# Altium schematic symbol library 27pf_capacitor_0805_Components - 15.03.22 - 13.57.SchLib: 1 symbol
Pins are listed as number, name and electrical type; pins without a type are passive.

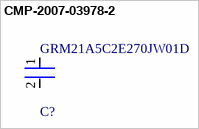
[diagram p0: symbol CMP-2007-03978-2]

## CMP-2007-03978-2
designator C?, comment GRM21A5C2E270JW01D
Chip Multilayer Ceramic Capacitors for General Purpose, 0805, 27pF, C0G, 30ppm/°C, 5%, 250V; Voltage Rating: 250V; Voltage Rating (DC): 250V; Height: 1mm; Dielectric: C0G; REACH SVHC: No SVHC; Case Code (Metric): 2012; Package Quantity: 1; Width: 0.049inch; Mount: Surface Mount; Termination: SMD/SMT; Max Operating Temperature: 125°C; Radiation Hardening: No; Tolerance: 5%; Thickness: 0.039inch; Case/Package: 0805; Packaging: Tape and Reel; Depth: 1.25mm; Length: 2mm; Min Operating Temperature: -55°C; Capacitance: 27pF; Case Code (Imperial): 0805
footprint FP-GRM21A-0_2-MFG
footprint FP-GRM21A-0_2-IPC_A
footprint FP-GRM21A-0_2-IPC_B
footprint FP-GRM21A-0_2-IPC_C
pins: 1, 2